# EAGLE library part LTC3862 (library linear-technology)
IC REG CTRLR BST PWM 4-36V
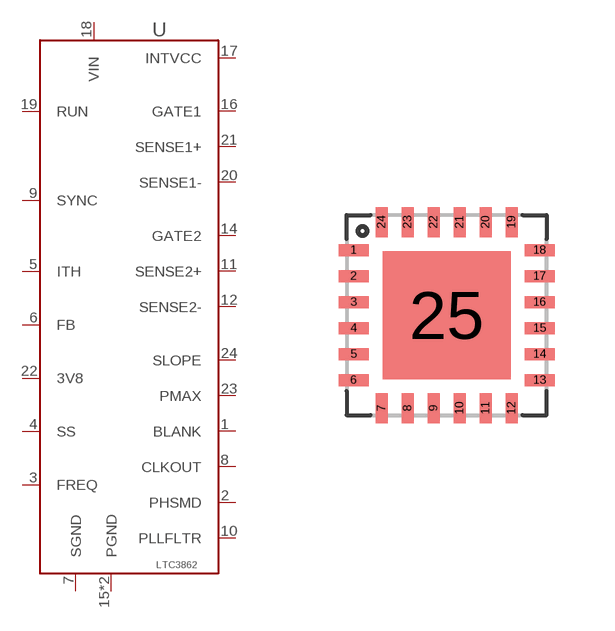
[diagram p61: symbol with the pads of QFN24_5X5; footprint QFN24_5X5]

Designator prefix U

## LTC3862 (DIGIKEY: LTC3862EUH-1#PBF-ND; P1I: o)  [QFN24_5X5]
1  BLANK
2  PHSMD
3  FREQ
4  SS
5  ITH
6  FB
7  SGND
8  CLKOUT
9  SYNC
10  PLLFLTR
11  SENSE2+
12  SENSE2-
14  GATE2
15  PGND
16  GATE1
17  INTVCC
18  VIN
19  RUN
20  SENSE1-
21  SENSE1+
22  3V8
23  PMAX
24  SLOPE
25  PGND

## Footprint QFN24_5X5 (pad centres in mm)
smd 0.75 x 0.3: 1 -2.325,1.625; 2 -2.325,0.975; 3 -2.325,0.325; 4 -2.325,-0.325; 5 -2.325,-0.975; 6 -2.325,-1.625; 13 2.325,-1.625; 14 2.325,-0.975; 15 2.325,-0.325; 16 2.325,0.325; 17 2.325,0.975; 18 2.325,1.625
smd 0.3 x 0.75: 7 -1.625,-2.325; 8 -0.975,-2.325; 9 -0.325,-2.325; 10 0.325,-2.325; 11 0.975,-2.325; 12 1.625,-2.325; 19 1.625,2.325; 20 0.975,2.325; 21 0.325,2.325; 22 -0.325,2.325; 23 -0.975,2.325; 24 -1.625,2.325
smd 3.2 x 3.2: 25 0,0